# Altium footprint library ESE516_shipwars_PCB.PcbLib: 39 footprints (part 2 of 3)
Each footprint in its own frame and in the unit in brackets; x right, y up, seen from the top. Pads: shape width x height; smd on the part's side, far side on the other; paste and mask are expansions set on the pad; w line width, h text height; cw(c..) or ccw(c..) is an arc to the next point about the centre after c.
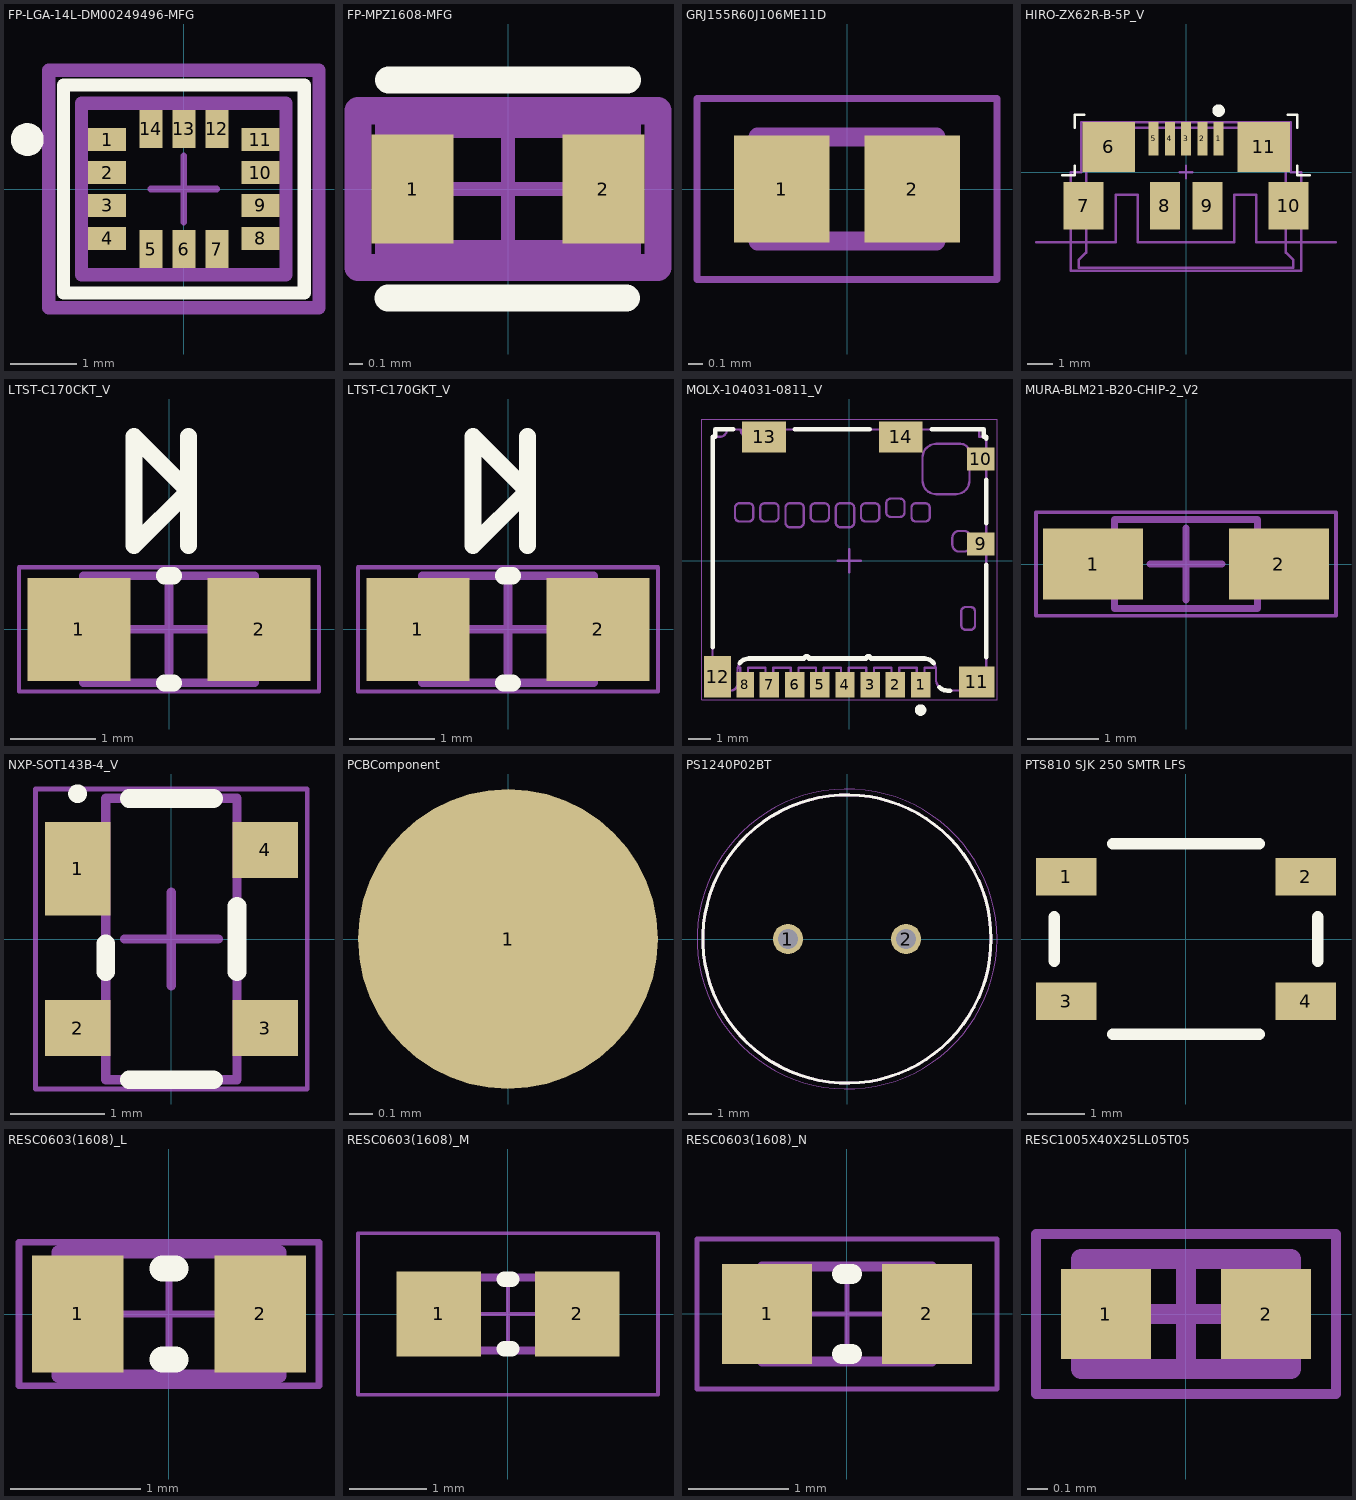
[diagram p1: the footprints below, top view; thin cyan lines are the x and y axes]

## FP-LGA-14L-DM00249496-MFG [mm]
pads (14):
  rect 0.575x0.35 smd paste+0 mask+0: 1(-1.162,0.75) 2(-1.162,0.25) 3(-1.162,-0.25) 4(-1.162,-0.75) 8(1.162,-0.75) 9(1.162,-0.25) 10(1.162,0.25) 11(1.162,0.75)
  rect 0.35x0.575 smd paste+0 mask+0: 5(-0.5,-0.913) 6(0,-0.913) 7(0.5,-0.913) 12(0.5,0.913) 13(0,0.913) 14(-0.5,0.913)
Top Overlay:
  circle w0.25: c-2.375,0.75 r0.125
  lines w0.2: -1.825,-1.575 1.825,-1.575 1.825,1.575 -1.825,1.575 -1.825,-1.575
Top 3D Body:
  lines w0.2: -1.55,-1.3 1.55,-1.3 1.55,1.3 -1.55,1.3 -1.55,-1.3
Top Courtyard:
  lines w0.2: -2.05,-1.8 2.05,-1.8 2.05,1.8 -2.05,1.8 -2.05,-1.8
Top Assembly:
  lines w0.2: -2.05,-1.8 2.05,-1.8 2.05,1.8 -2.05,1.8 -2.05,-1.8
  text ".Designator" at 0,0.188 h1
Top Component Center:
  lines w0.1: -0.5,0 0.5,0 ; 0,-0.5 0,0.5
3D body "IC_STMicroelectronics_LSM6DSOTR_eec.STEP": height 0.25, standoff 0, extent -2.05,-1.8 2.05,1.8

## FP-MPZ1608-MFG [mm]
pads (2):
  rect 0.6x0.8 smd paste+0 mask+0: 1(-0.7,0) 2(0.7,0)
Top Overlay:
  lines w0.2: -0.88,-0.8 0.87,-0.8 ; -0.875,0.8 0.875,0.8
Top 3D Body:
  lines w0.2: -0.875,-0.475 0.875,-0.475 0.875,0.475 -0.875,0.475 -0.875,-0.475
Top Courtyard:
  lines w0.2: -1.1,-0.575 1.1,-0.575 1.1,0.575 -1.1,0.575 -1.1,-0.575
Top Assembly:
  lines w0.2: -1.1,-0.575 1.1,-0.575 1.1,0.575 -1.1,0.575 -1.1,-0.575
  text ".Designator" at -0.412,1.124 h1
Top Component Center:
  lines w0.1: -0.5,0 0.5,0 ; 0,-0.5 0,0.5
3D body "FBead_TDK_MPZ1608S300ATAH0_eec.STEP": height 0.25, standoff 0, extent -1.1,-0.575 1.1,0.575

## GRJ155R60J106ME11D [mm]
pads (2):
  rect 0.64x0.72 smd: 1(-0.439,0) 2(0.439,0)
Mechanical 13:
  lines w0.127: -0.6,-0.35 -0.6,0.35 0.6,0.35 0.6,-0.35 -0.6,-0.35
Mechanical 15:
  lines w0.05: -1.008,-0.608 -1.008,0.608 1.008,0.608 1.008,-0.608 -1.008,-0.608
3D body "step_temp.STEP": height 0.7, standoff 0, extent -0.5,-0.25 0.5,0.25

## HIRO-ZX62R-B-5P_V [mm] "USB Micro-B R/A Connector"
height 2.65
pads (11):
  rect 0.4x1.35 smd: 1(1.3,1.338) 2(0.65,1.338) 3(0,1.338) 4(-0.65,1.338) 5(-1.3,1.338)
  rect 2.1x2 smd: 6(-3.1,1.012) 11(3.1,1.012)
  rect 1.6x1.9 smd: 7(-4.1,-1.338) 10(4.1,-1.338)
  rect 1.2x1.9 smd: 8(-0.85,-1.338) 9(0.85,-1.338)
Top Overlay:
  circle w0.25: c1.304,2.46 r0.125
  lines w0.1: -4.953,-0.127 -4.445,-0.127 -4.445,0.254 ; -4.445,1.778 -4.445,2.286 -4.064,2.286 ; 4.064,2.286 4.445,2.286 4.445,1.778 ; 4.445,0.254 4.445,-0.127 4.953,-0.127
Mechanical 1:
  lines w0.1: -6,-2.8 -2.82,-2.8 -2.82,-0.9 -1.92,-0.9 -1.92,-2.8 0,-2.8 1.92,-2.8 1.92,-0.9 2.82,-0.9 2.82,-2.8 6,-2.8
  text "Board edge" at 5.588,-2.667 h0.2
Mechanical 13:
  lines w0.1: -4,1.78 -4,-0.72 -4.572,-0.72 -4.572,-1.778 -4,-1.778 -4,-3.22 -4.3,-3.52 -4.3,-3.82 4.3,-3.82 4.3,-3.52 4,-3.22 4,-1.778 4.572,-1.778 4.572,-0.72 4,-0.72 4,1.78 ; -4,1.78 4,1.78 ; -4,1.78 4,1.78
Mechanical 15:
  lines w0.1: -0.254,0 0.254,0 ; 0,-0.254 0,0.254 ; -4.6,-3.937 -4.6,-2.8 -4.6,0 -4.2,0 -4.2,2 4.2,2 4.2,0 4.6,0 4.6,-2.8 4.6,-3.937 -4.6,-3.937
3D body "ZX62R-B-5P.stp": height 2.71, standoff -0.23, extent -4.4,-3.953 4.4,1.778

## LTST-C170CKT_V [mm] "SMD, 2-Leads, Body 2x1.25mm"
height 1.1
pads (2):
  rect 1.2x1.2 smd: 1(-1.05,0) 2(1.05,0)
Top Overlay:
  lines w0.2: -0.051,-0.625 0.051,-0.625 ; -0.051,0.625 0.051,0.625 ; 0.227,0.98 0.227,2.25 ; -0.408,0.98 0.227,1.615 -0.408,2.25 -0.408,0.98
Mechanical 13:
  lines w0.1: -0.7,-0.625 -0.7,0.625 ; 0.7,-0.625 0.7,0.625 ; -1,-0.625 -1,0.625 1,0.625 1,-0.625 -1,-0.625
Mechanical 15:
  lines w0.05: -1.75,-0.725 1.75,-0.725 1.75,0.725 -1.75,0.725 -1.75,-0.725
  lines w0.1: -0.5,0 0.5,0 ; 0,-0.5 0,0.5
3D body: height 0.5, standoff 0, extent -1,-0.625 1,0.625
3D body: height 1.1, standoff 0.5, extent -0.7,-0.625 0.7,0.625

## LTST-C170GKT_V [mm] "SMD, 2-Leads, Body 2x1.25mm"
height 1.1
pads (2):
  rect 1.2x1.2 smd: 1(-1.05,0) 2(1.05,0)
Top Overlay:
  lines w0.2: -0.051,-0.625 0.051,-0.625 ; -0.051,0.625 0.051,0.625 ; 0.227,0.98 0.227,2.25 ; -0.408,0.98 -0.408,2.25 0.227,1.615 -0.408,0.98
Mechanical 13:
  lines w0.1: -0.7,-0.625 -0.7,0.625 ; 0.7,-0.625 0.7,0.625 ; -1,-0.625 1,-0.625 1,0.625 -1,0.625 -1,-0.625
Mechanical 15:
  lines w0.05: -1.75,-0.725 -1.75,0.725 1.75,0.725 1.75,-0.725 -1.75,-0.725
  lines w0.1: -0.5,0 0.5,0 ; 0,-0.5 0,0.5
3D body: height 1.1, standoff 0.5, extent -0.7,-0.625 0.7,0.625
3D body: height 0.5, standoff 0, extent -1,-0.625 1,0.625

## MOLX-104031-0811_V [mm] "Micro SD, 8-Leads, Body 11.95x11.4mm, Pitch 1.1mm"
height 1.57
pads (14):
  rect 0.85x1.1 smd: 1(3.113,-5.412) 2(2.013,-5.412) 3(0.913,-5.412) 4(-0.188,-5.412) 5(-1.288,-5.412) 6(-2.387,-5.412) 7(-3.487,-5.412)
  rect 0.75x1.1 smd: 8(-4.537,-5.412)
  rect 1.2x1 smd: 9(5.748,0.738) 10(5.748,4.438)
  rect 1.55x1.35 smd: 11(5.573,-5.287)
  rect 1.17x1.8 smd: 12(-5.747,-5.062)
  rect 1.9x1.35 smd: 13(-3.722,5.413) 14(2.248,5.413)
Top Overlay:
  circle w0.25: c3.113,-6.512 r0.125
  lines w0.2: -5.968,-3.762 -5.968,5.418 -5.848,5.418 -5.848,5.738 -5.343,5.738 -5.072,5.738 ; -4.777,-4.462 cw(c-4.378,-4.762) -4.378,-4.262 -1.962,-4.262 cw(c-1.862,-4.262) -1.862,-4.162 cw(c-1.862,-4.262) -1.762,-4.262 0.738,-4.262 cw(c0.838,-4.262) 0.838,-4.162 cw(c0.838,-4.262) 0.938,-4.262 3.283,-4.262 cw(c3.283,-4.762) 3.692,-4.476 ; -2.372,5.738 0.898,5.738 ; 3.598,5.738 5.678,5.738 5.863,5.738 5.863,5.418 5.983,5.418 5.983,5.338 ; 3.938,-5.525 ccw(c4.283,-5.162) 4.283,-5.662 4.397,-5.662 ; 5.977,-4.212 5.977,-0.162 ; 5.983,1.638 5.983,3.538
Mechanical 13:
  drawing of 227 lines, arcs and shapes, not listed
Mechanical 15:
  lines w0.05: -6.432,-6.062 -6.432,6.188 6.448,6.188 6.448,-6.062 -6.432,-6.062
  lines w0.1: -0.5,0 0.5,0 ; 0,-0.5 0,0.5
3D body "1040310811.stp": height 1.45, standoff 0, extent -5.967,-5.662 5.983,5.738

## MURA-BLM21-B20-CHIP-2_V2 [mm] "Chip Ferrite Bead, 2-Leads, Body 2x1.25mm, Height 1.05mm, 35/70um Land Pad Thickness, 2A Rated Current"
height 1.05
pads (2):
  rect 1.4x1 smd: 1(-1.3,0) 2(1.3,0)
Mechanical 13:
  lines w0.1: -1,-0.625 -1,0.625 1,0.625 1,-0.625 -1,-0.625
Mechanical 15:
  lines w0.05: -2.1,-0.725 2.1,-0.725 2.1,0.725 -2.1,0.725 -2.1,-0.725
  lines w0.1: -0.5,0 0.5,0 ; 0,-0.5 0,0.5
3D body: height 1.05, standoff 0, extent -1,-0.625 1,0.625

## NXP-SOT143B-4_V [mm] "SOT143, 4-Leads, Body 3x1.4mm"
height 1.1
pads (4):
  rect 0.7x1 smd: 1(-1,0.75)
  rect 0.7x0.6 smd: 2(-1,-0.95) 3(1,-0.95) 4(1,0.95)
Top Overlay:
  circle w0.1: c-1,1.55 r0.05
  lines w0.2: -0.7,-0.35 -0.7,-0.05 ; -0.45,-1.5 0.45,-1.5 ; -0.45,1.5 0.45,1.5 ; 0.7,-0.35 0.7,0.35
Mechanical 13:
  lines w0.1: -0.7,-1.5 -0.7,1.5 0.7,1.5 0.7,-1.5 -0.7,-1.5
Mechanical 15:
  lines w0.05: -1.45,-1.6 -1.45,1.6 1.45,1.6 1.45,-1.6 -1.45,-1.6
  lines w0.1: -0.5,0 0.5,0 ; 0,-0.5 0,0.5
3D body: height 1.1, standoff 0, extent -0.7,-1.5 0.7,1.5

## PCBComponent [mm]
pads (1):
  round 1.27 smd mask+0: 1(0,0)
3D body: height 0, standoff -0.02, extent -0.63,-0.634 0.635,0.634

## PS1240P02BT [mm] "Buzzer"
pads (2):
  round 1.28 hole 0.85: 1(-2.5,0) 2(2.5,0)
Top Overlay:
  circle w0.127: c0,0 r6.1
Mechanical 13:
  circle w0.127: c0,0 r6.1
Mechanical 15:
  circle w0.05: c0,0 r6.35
3D body "PS1240P02BT--3DModel-STEP-56544.STEP": height 6.01, standoff -14.99, extent -6.1,-6.1 6.1,6.1

## PTS810 SJK 250 SMTR LFS [mm] "SWITCH TACTILE SPST-NO 0.05A 16V"
pads (4):
  rect 1.05x0.65 smd: 1(-2.075,1.075) 2(2.075,1.075) 3(-2.075,-1.075) 4(2.075,-1.075)
Top Overlay:
  lines w0.203: -2.286,-0.381 -2.286,0.381 ; -1.27,-1.651 1.27,-1.651 ; -1.27,1.651 1.27,1.651 ; 2.286,-0.381 2.286,0.381
3D body "PTS810 CK Switch.STEP": height 2.5, standoff 0, extent -2.3,-1.6 2.3,1.6

## RESC0603(1608)_L [mm] "Chip Resistor, Body 1.6x0.8mm, IPC High Density"
height 0.6
pads (2):
  rect 0.7x0.9 smd: 1(-0.7,0) 2(0.7,0)
Top Overlay:
  lines w0.2: -0.05,-0.35 0.05,-0.35 ; -0.05,0.35 0.05,0.35
Mechanical 13:
  lines w0.1: -0.85,-0.475 -0.85,0.475 0.85,0.475 0.85,-0.475 -0.85,-0.475
Mechanical 15:
  lines w0.05: -0.475,0 0.475,0 ; 0,-0.475 0,0.475 ; -1.15,-0.55 -1.15,0.55 1.15,0.55 1.15,-0.55 -1.15,-0.55
3D body: height 0.6, standoff 0, extent 0.581,-0.474 0.85,0.475
3D body: height 0.6, standoff 0, extent -0.58,-0.474 0.581,0.475
3D body: height 0.6, standoff 0, extent -0.849,-0.474 -0.58,0.475

## RESC0603(1608)_M [mm] "Chip Resistor, Body 1.6x0.8mm, IPC Low Density"
height 0.6
pads (2):
  rect 1.1x1.1 smd: 1(-0.9,0) 2(0.9,0)
Top Overlay:
  lines w0.2: -0.05,-0.45 0.05,-0.45 ; -0.05,0.45 0.05,0.45
Mechanical 13:
  lines w0.1: -0.85,-0.475 0.85,-0.475 0.85,0.475 -0.85,0.475 -0.85,-0.475
Mechanical 15:
  lines w0.05: -0.475,0 0.475,0 ; 0,-0.475 0,0.475 ; -1.95,-1.05 1.95,-1.05 1.95,1.05 -1.95,1.05 -1.95,-1.05
3D body: height 0.6, standoff 0, extent 0.581,-0.474 0.85,0.475
3D body: height 0.6, standoff 0, extent -0.58,-0.474 0.581,0.475
3D body: height 0.6, standoff 0, extent -0.849,-0.474 -0.58,0.475

## RESC0603(1608)_N [mm] "Chip Resistor, Body 1.6x0.8mm, IPC Medium Density"
height 0.6
pads (2):
  rect 0.9x1 smd: 1(-0.8,0) 2(0.8,0)
Top Overlay:
  lines w0.2: -0.05,-0.4 0.05,-0.4 ; -0.05,0.4 0.05,0.4
Mechanical 13:
  lines w0.1: -0.85,-0.475 -0.85,0.475 0.85,0.475 0.85,-0.475 -0.85,-0.475
Mechanical 15:
  lines w0.05: -0.475,0 0.475,0 ; 0,-0.475 0,0.475 ; -1.5,-0.75 -1.5,0.75 1.5,0.75 1.5,-0.75 -1.5,-0.75
3D body: height 0.6, standoff 0, extent 0.581,-0.474 0.85,0.475
3D body: height 0.6, standoff 0, extent -0.58,-0.474 0.581,0.475
3D body: height 0.6, standoff 0, extent -0.849,-0.474 -0.58,0.475

## RESC1005X40X25LL05T05 [mm] "Chip Resistor, 2-Leads, Body 1.00x0.50mm, IPC High Density"
height 0.4
pads (2):
  rect 0.45x0.45 smd: 1(-0.4,0) 2(0.4,0)
Mechanical 13:
  lines w0.1: -0.525,-0.275 -0.525,0.275 0.525,0.275 0.525,-0.275 -0.525,-0.275
Mechanical 15:
  lines w0.05: -0.75,-0.4 -0.75,0.4 0.75,0.4 0.75,-0.4 -0.75,-0.4
  lines w0.1: -0.275,0 0.275,0 ; 0,-0.275 0,0.275
3D body: height 0.4, standoff 0, extent -0.275,-0.275 0.275,0.275
3D body: height 0.4, standoff 0, extent -0.525,-0.275 -0.275,0.275
3D body: height 0.4, standoff 0, extent 0.275,-0.275 0.525,0.275